# Altium footprint library new-version.PcbLib: 241 footprints (part 4 of 16)
Each footprint in its own frame and in the unit in brackets; x right, y up, seen from the top. Pads: shape width x height; smd on the part's side, far side on the other; paste and mask are expansions set on the pad; w line width, h text height; cw(c..) or ccw(c..) is an arc to the next point about the centre after c.
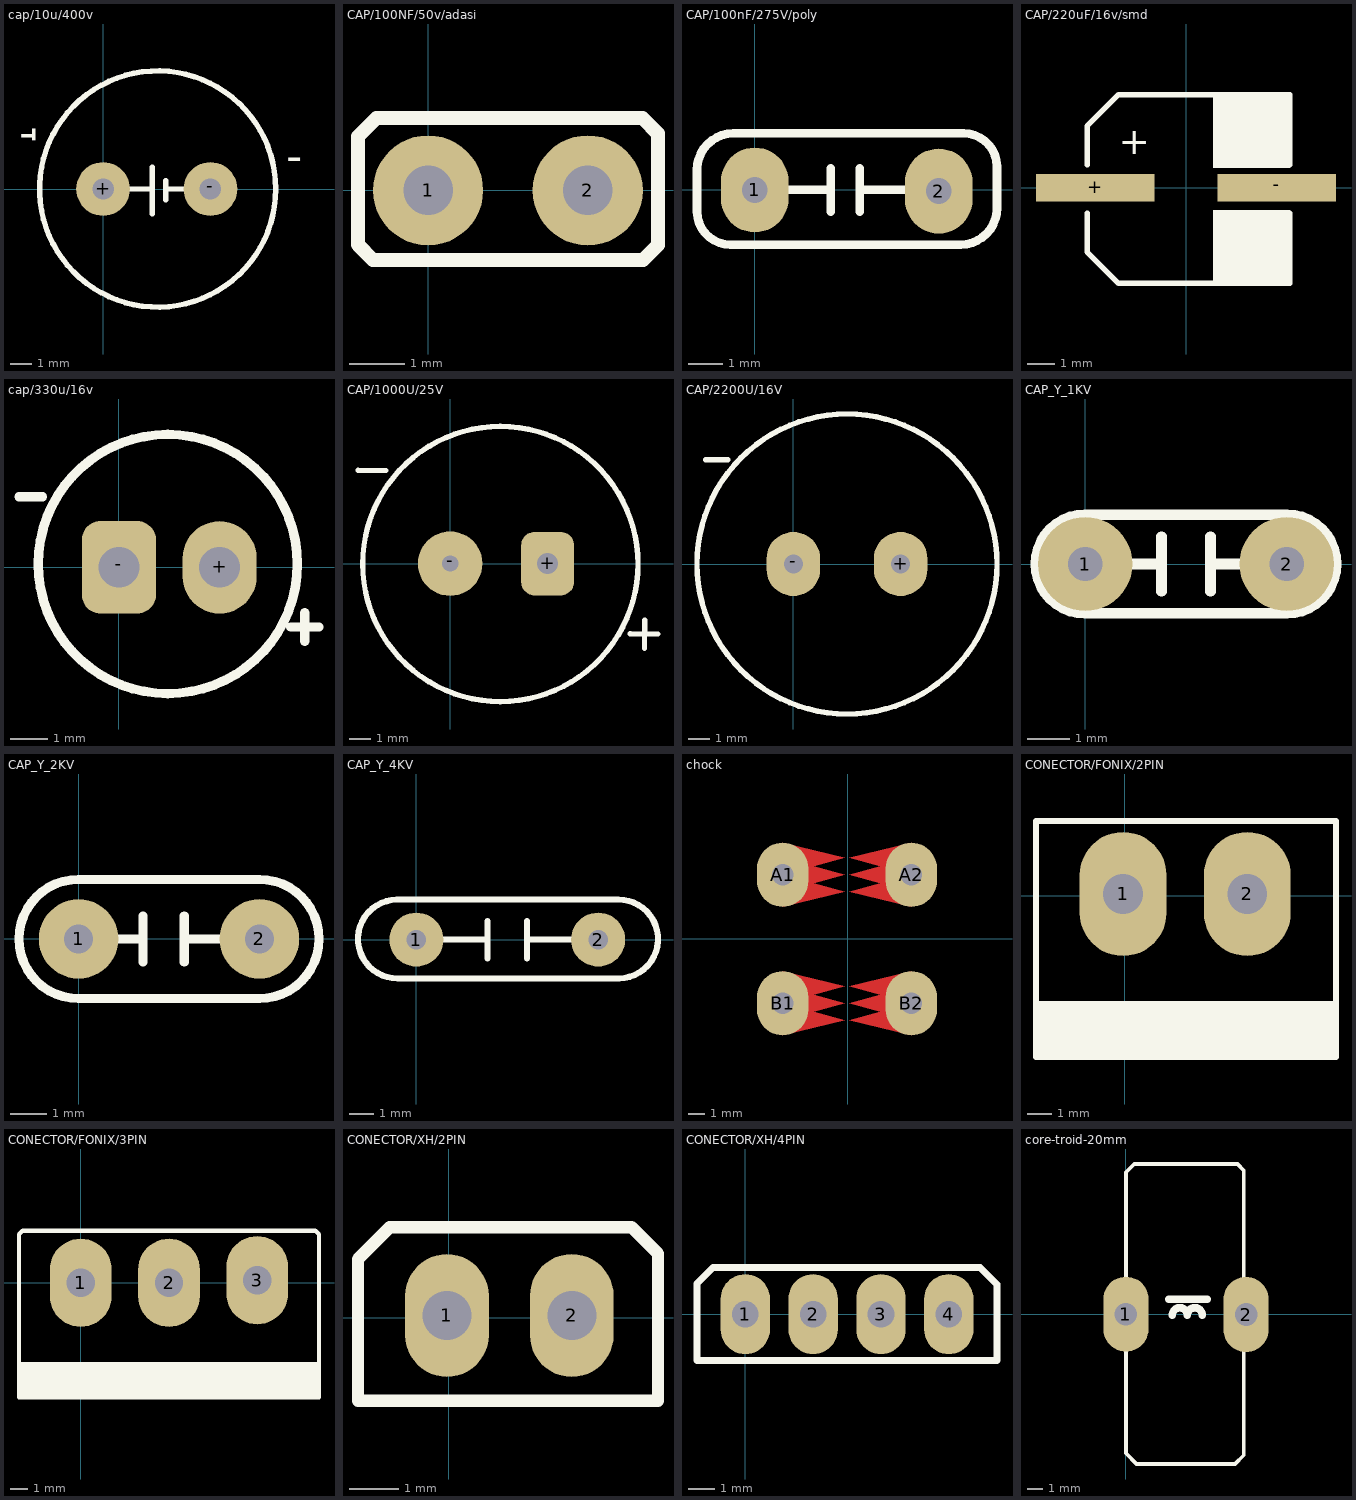
[diagram p3: the footprints below, top view; thin cyan lines are the x and y axes]

## cap/10u/400v [mm]
pads (2):
  round 2.5 hole 1: +(0,0) -(5,0)
Top Overlay:
  circle w0.254: c2.54,0 r5.5
  lines w0.254: 0.381,0 2.286,0 ; 2.286,-1.143 2.286,0 ; 2.286,1.016 2.286,0 ; 2.921,-0.508 2.921,0.381 2.921,0 ; 2.921,-0.064 2.921,0 ; 5.381,0 2.921,0
  text "-" at 8.53,0.795 h1.52
  text "-" at -3.916,1.902 h1.52
  text "-" at -2.647,2.154 h1.52
3D body "CAP_EL_P5MM.STEP": height 16, standoff -17, extent -2.49,-4.869 7.51,5.129

## CAP/100NF/50v/adasi [mm]
pads (2):
  round 2 hole 0.9: 1(0,0) 2(2.9,0)
Top Overlay:
  lines w0.254: -1.272,-0.987 -0.996,-1.263 3.898,-1.263 4.174,-0.988 4.174,1.029 3.889,1.314 -0.936,1.314 -1.272,0.978 -1.272,-0.987

## CAP/100nF/275V/poly [mm]
pads (2):
  oval 2x2.5 hole 0.762: 1(0,0) 2(5.418,-0.035)
Top Overlay:
  lines w0.254: -1.702,-0.641 ccw(c-0.716,-0.627) -0.716,-1.613 6.07,-1.613 ; -1.702,-0.627 -1.702,0.589 cw(c-0.623,0.589) -0.638,1.668 -0.319,1.668 6.147,1.668 cw(c6.147,0.681) 7.134,0.696 ; 0.33,0 2.235,0 2.235,-0.635 2.235,0.635 ; 3.095,-0.635 3.095,0.635 3.095,0 5,0 ; 7.134,0.681 7.134,-0.534 cw(c6.054,-0.534) 6.07,-1.613 ; 6.07,-1.613 6.07,-1.613
3D body "cap-103j.stp": height 12.8, standoff -4.2, extent -0.46,-1.524 5.54,1.476

## CAP/220uF/16v/smd [mm]
pads (2):
  rect 4.3x1 smd: +(-3.3,0) -(3.3,0)
Top Overlay:
  rectangle: 0.982,-3.481 3.776,-0.814
  rectangle: 0.982,0.71 3.776,3.377
  lines w0.2: -3.59,-0.941 -3.59,-2.338 -2.447,-3.481 -1.395,-3.481 3.776,-3.481 3.776,-1.576 3.776,-0.941 ; -3.59,0.837 -3.59,2.234 -2.447,3.377 -1.341,3.377 3.776,3.377 3.776,1.472 3.776,0.837
  text "+" at -2.447,1.218 h1

## cap/330u/16v [mm]
pads (2):
  oval 2x2.5 hole 1.1: +(2.72,0)
  rrect50% 2x2.5 hole 1.1: -(0,0)
Top Overlay:
  circle w0.254: c1.322,0.089 r3.5
  lines w0.254: -2.698,1.907 -2.063,1.907 ; 4.643,-1.613 5.405,-1.613 ; 5.024,-1.994 5.024,-1.232
3D body "cap-330-16v.stp": height 11, standoff -3, extent -1.74,-3.023 4.76,3.476

## CAP/1000U/25V [mm]
pads (2):
  rrect50% 2.5x3 hole 1: +(4.6,0)
  round 3.048 hole 0.762: -(0,0)
Top Overlay:
  circle w0.254: c2.368,-0.017 r6.5
  lines w0.254: -4.354,4.404 -3.038,4.396 ; 8.497,-3.314 9.813,-3.322 ; 9.176,-3.992 9.184,-2.676

## CAP/2200U/16V [mm]
pads (2):
  oval 2.5x3 hole 0.9: +(5,0) -(0,0)
Top Overlay:
  circle w0.254: c2.5,0 r7
  lines w0.254: -4.09,4.866 -3.052,4.866

## CAP_Y_1KV [mm]
pads (2):
  round 2.2 hole 0.8: 1(0,0) 2(4.7,0)
Top Overlay:
  lines w0.254: 0,0 1.778,0 1.778,0.635 1.778,-0.635 ; 2.922,0.635 2.922,-0.635 2.922,0 4.7,0 5.445,0 ; 0,-1.15 cw(c0,0) 0,1.15 4.7,1.15 cw(c4.7,0) 4.7,-1.15 0,-1.15

## CAP_Y_2KV [mm]
pads (2):
  round 2.2 hole 0.8: 1(0,0) 2(5,0)
Top Overlay:
  lines w0.254: 0,-1.651 5,-1.651 ; 0,-1.65 cw(c0,0) 0,1.65 5,1.65 cw(c5,0) 5,-1.65 ; 0,0 1.778,0 1.778,0.635 1.778,-0.635 ; 2.922,0.635 2.922,-0.635 2.922,0 4.7,0 5.445,0

## CAP_Y_4KV [mm]
pads (2):
  round 2.2 hole 0.8: 1(0,0) 2(7.4,0)
Top Overlay:
  lines w0.254: 0,0 2.896,0 ; 2.896,-0.762 2.896,0 ; 2.896,0.762 2.896,0 ; 4.504,-0.762 4.504,0 ; 4.504,0.762 4.504,0 ; 7.4,0 4.504,0 ; -0.799,1.631 ccw(c-0.77,0.025) -0.761,-1.58 8.258,-1.58 ccw(c8.23,0.025) 8.22,1.631 -0.799,1.631

## chock [mm]
pads (4):
  oval 3.048x3.81 hole 1.25: A1(-3.849,3.799) A2(3.771,3.799) B1(-3.849,-3.821) B2(3.771,-3.821)
Top Layer:
  region: -0.539,-4.972
  region: -0.166,-4.837 -3.849,-4.837 -3.849,-5.726
  region: -0.166,-3.821 -3.849,-3.821 -3.849,-4.837
  region: -0.166,-2.805 -3.849,-2.805 -3.849,-3.821
  region: -0.166,-2.805 -3.849,-1.917 -3.849,-2.805
  region: -0.166,-3.821 -3.849,-2.805 -3.849,-3.821
  region: -0.166,-4.837 -3.849,-3.821 -3.849,-4.837
  region: 0.088,-2.805 3.771,-3.821 3.771,-2.805
  region: 0.088,-3.821 3.771,-4.837 3.771,-3.821
  region: 0.088,-4.837 3.771,-5.725 3.771,-4.837
  region: 0.088,-4.837 3.771,-4.837 3.771,-3.821
  region: 0.088,-3.821 3.771,-3.821 3.771,-2.805
  region: 0.088,-2.805 3.771,-2.805 3.771,-1.916
  region: 0.461,-2.669
  region: 0.461,4.951
  region: 0.088,4.815 3.771,4.815 3.771,5.704
  region: 0.088,3.799 3.771,3.799 3.771,4.815
  region: 0.088,2.783 3.771,2.783 3.771,3.799
  region: 0.088,2.783 3.771,1.895 3.771,2.783
  region: 0.088,3.799 3.771,2.783 3.771,3.799
  region: 0.088,4.815 3.771,3.799 3.771,4.815
  region: -0.166,2.783 -3.849,3.799 -3.849,2.783
  region: -0.166,3.799 -3.849,4.815 -3.849,3.799
  region: -0.166,4.815 -3.849,5.703 -3.849,4.815
  region: -0.166,4.815 -3.849,4.815 -3.849,3.799
  region: -0.166,3.799 -3.849,3.799 -3.849,2.783
  region: -0.166,2.783 -3.849,2.783 -3.849,1.894
  region: -0.539,2.648
  region: -3.341,3.799
Bottom Overlay:
  lines w0.254: -6.325,-6.297 ccw(c-0.039,-0.011) 6.247,-6.297 ; -6.325,6.275 cw(c-0.039,-0.011) 6.247,6.275 ; -5.881,-5.853 ccw(c-0.039,-0.011) 5.803,-5.853 5.803,5.831 ccw(c-0.039,-0.011) -5.881,5.831 -5.881,-5.853
Top Solder:
  region: -3.849,-5.627 -0.039,-5.627 -0.039,-2.006 -3.849,-2.006
  region: 3.771,-2.014 -0.039,-2.014 -0.039,-5.635 3.771,-5.635
  region: 3.771,5.606 -0.039,5.606 -0.039,1.985 3.771,1.985
  region: -3.849,1.993 -0.039,1.993 -0.039,5.614 -3.849,5.614

## CONECTOR/FONIX/2PIN [mm]
pads (2):
  oval 3.5x5 hole 1.6: 1(-0.073,0.063) 2(4.927,0.063)
Top Overlay:
  rectangle: -3.58,-6.5 8.5,-4.25
  rectangle: -3.5,-6.5 7.25,-4.5
  lines w0.254: -3.43,-4.444 8,-4.444 ; 7.246,-6.496 7.246,-4.448 ; -3.58,-6.5 8.5,-6.5 8.5,-4.444 8.5,3 -3.58,3 -3.58,-6.5
3D body "phonix-2pin-ra.STEP": height 3, standoff -9.1, extent -3.54,-9.75 8.54,2.25

## CONECTOR/FONIX/3PIN [mm]
pads (3):
  oval 3.5x5 hole 1.6: 1(0,0) 2(5,0) 3(10,0.144)
Top Overlay:
  rectangle: -3.5,-6.5 13.5,-4.5
  lines w0.254: -3.5,-6.5 13.5,-6.5 13.5,2.75 13.289,2.961 -3.289,2.961 -3.5,2.75 -3.5,-6.5
3D body "phonix-3pin.stp": height 8.8, standoff -3, extent -3.5,-10 13.5,2

## CONECTOR/XH/2PIN [mm]
pads (2):
  oval 1.7x2.5 hole 1: 1(-0.033,0.044) 2(2.507,0.044)
Top Overlay:
  lines w0.254: -1.843,-1.69 -1.843,1.192 -1.196,1.839 3.72,1.839 4.259,1.3 4.259,-1.69 -1.843,-1.69

## CONECTOR/XH/4PIN [mm]
pads (4):
  oval 1.85x3 hole 1: 1(0,0) 2(2.54,0) 3(5.08,0) 4(7.62,0)
Top Overlay:
  lines w0.254: -1.809,-1.734 -1.809,1.148 -1.209,1.748 8.797,1.748 9.426,1.119 9.426,-1.734 -1.809,-1.734

## core-troid-20mm [mm]
pads (2):
  oval 3x5 hole 1.5: 1(0,0) 2(8,-0.025)
Top Overlay:
  lines w0.254: 0,-9.271 0.711,-9.982 7.264,-9.982 7.849,-9.398 7.849,9.576 7.424,10 0.551,10 0,9.449 0,-9.271
  lines w0.5: 2.857,1.005 5.406,1.005 ; 3.089,-0.076 cw(c3.589,-0.076) 4.089,-0.076 cw(c4.589,-0.076) 5.089,-0.076